# Altium footprint library conector's_and_TP.PcbLib: 12 footprints
Each footprint in its own frame and in the unit in brackets; x right, y up, seen from the top. Pads: shape width x height; smd on the part's side, far side on the other; paste and mask are expansions set on the pad; w line width, h text height; cw(c..) or ccw(c..) is an arc to the next point about the centre after c.
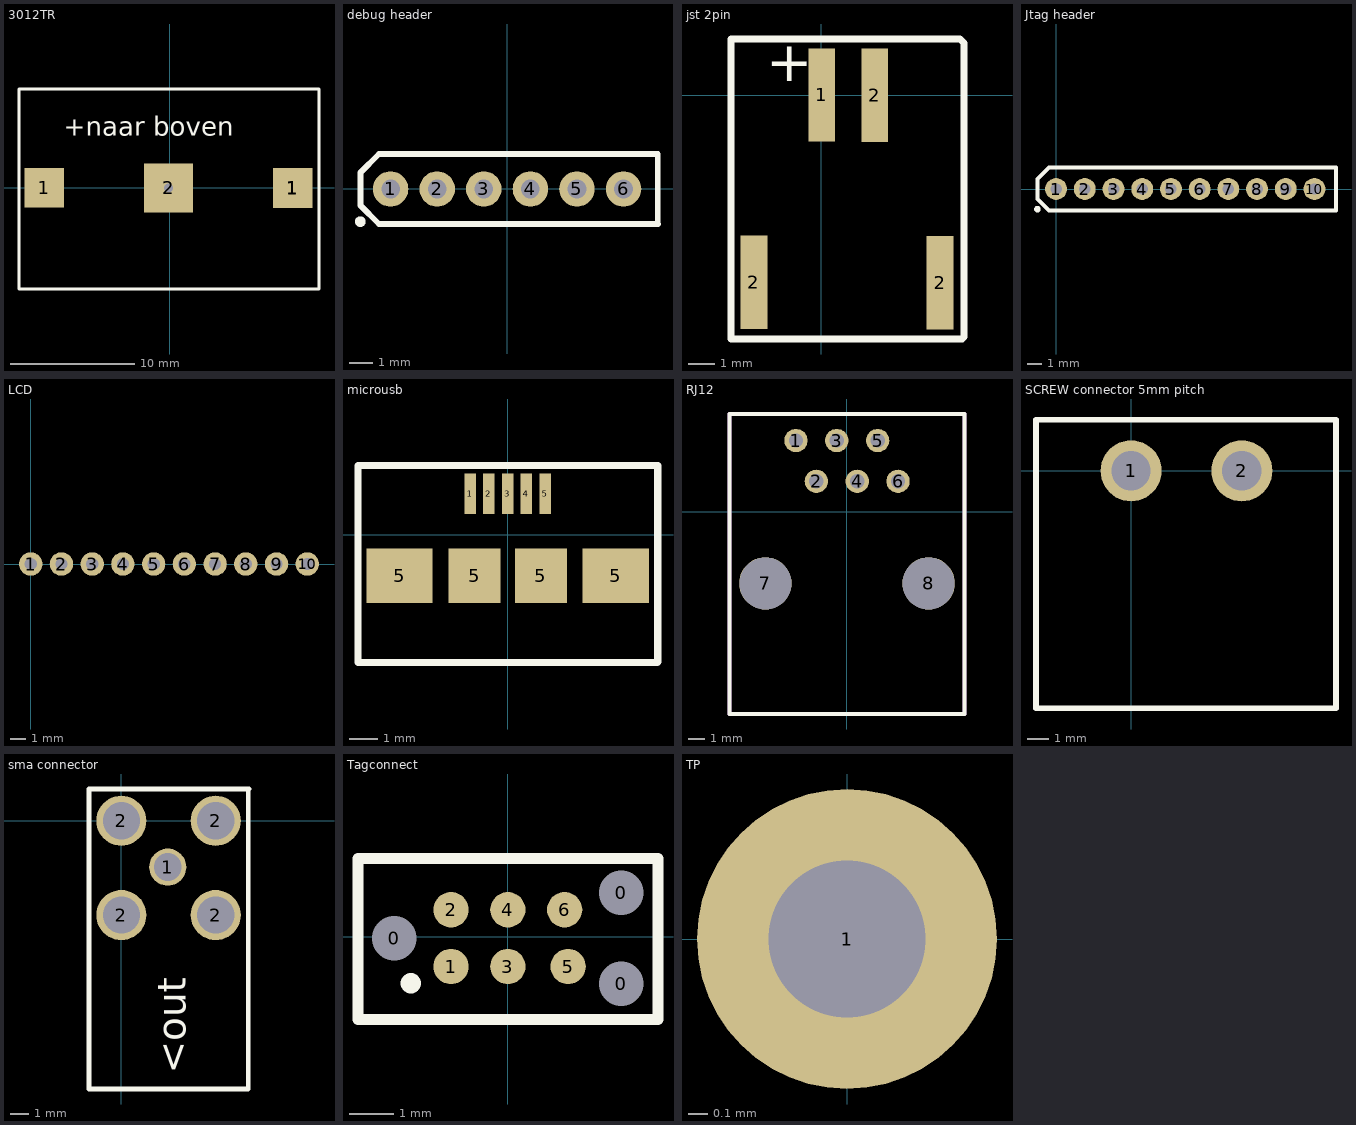
[diagram p0: the footprints below, top view; thin cyan lines are the x and y axes]

## 3012TR [mm]
pads (4):
  rect 3.18x3.18 smd: 1(-10.1,0) 1(9.925,-0.012) 1(9.94,0)
  rect 3.96x3.96 smd: 2(-0.08,0)
via -0.08,0 diameter 1.27 hole 0.711
Top Overlay:
  lines w0.254: -12.14,-8.14 -12.14,-5.58 -12.14,7.97 12.04,7.97 12.04,-8.14 -12.14,-8.14
  text "+naar boven" at -8.546,4.204 h1.52
3D body "keystone 3012-3013.step": height 4, standoff 0.04, extent -11.628,-7.784 11.588,7.558

## debug header [mm]
pads (6):
  round 1.524 hole 0.8: 1(-5,0) 2(-3,0) 3(-1,0) 4(1,0) 5(3,0) 6(5,0)
Top Overlay:
  circle w0.254: c-6.3,-1.4 r0.1
  lines w0.125: 6.47,-1.49 6.48,-1.5
  lines w0.25: 6.47,-1.49 6.47,1.5
  lines w0.254: 6.47,1.5 -5.5,1.5 -6.3,0.7 -6.3,-0.7 -5.5,-1.5 6.48,-1.5

## jst 2pin [mm] "jst 2 pin battery connector"
pads (4):
  rect 1x3.5 smd: 1(0.016,0.002) 2(-2.52,-7.01) 2(2,0) 2(4.45,-7.03)
Top Overlay:
  lines w0.254: -3.38,-9.14 -3.38,-8.49 -3.38,2.1 -2.68,2.1 5.2,2.1 5.35,1.95 5.35,-7.63 5.35,-9.07 5.28,-9.14 -3.38,-9.14
  text "+" at -2.066,0.51 h1.52
3D body "JST - PH - SMD (R) - 2Pin - 2.00mm.stp": height 5.38, standoff 0, extent -3.2,-8.167 4.947,0.087

## Jtag header [mil]
pads (10):
  round 60 hole 31.5: 1(0,0) 2(78.74,0) 3(157.48,0) 4(236.22,0) 5(314.96,0) 6(393.7,0) 7(472.44,0) 8(551.18,0) 9(629.92,0) 10(708.66,0)
Top Overlay:
  circle w10: c-51.18,-55.12 r3.94
  lines w10: -51.18,-27.56 -19.69,-59.06 767.72,-59.06 767.72,59.06 -19.69,59.06 -51.18,27.56 -51.18,-27.56
3D body "65775.stp": height 325.59, standoff -128.74, extent 658.67,-49.99 758.67,50.01
3D body "65775.stp": height 325.59, standoff -128.74, extent 579.93,-49.99 679.93,50.01
3D body "65775.stp": height 325.59, standoff -128.74, extent 501.19,-50 601.19,50
3D body "65775.stp": height 325.59, standoff -128.74, extent 422.45,-49.99 522.45,50.01
3D body "65775.stp": height 325.59, standoff -128.74, extent 343.7,-49.99 443.7,50.01
3D body "65775.stp": height 325.59, standoff -128.74, extent 264.97,-49.99 364.97,50.01
3D body "65775.stp": height 325.59, standoff -128.74, extent 186.22,-49.99 286.22,50.01
3D body "65775.stp": height 325.59, standoff -128.74, extent 107.48,-49.99 207.48,50.01
3D body "65775.stp": height 325.59, standoff -128.74, extent 28.75,-49.99 128.75,50.01
3D body "65775.stp": height 325.59, standoff -128.74, extent -46.06,-51.18 53.94,48.82

## LCD [mil]
pads (10):
  round 60 hole 31.5: 1(0,0) 2(78.74,0) 3(157.48,0) 4(236.22,0) 5(314.96,0) 6(393.7,0) 7(472.44,0) 8(551.18,0) 9(629.92,0) 10(708.66,0)
3D body "65775.stp": height 325.59, standoff -128.74, extent -70.87,-48.82 29.13,51.18
3D body "65775.stp": height 325.59, standoff -128.74, extent 28.75,-49.99 128.75,50.01
3D body "65775.stp": height 325.59, standoff -128.74, extent 107.48,-49.99 207.48,50.01
3D body "65775.stp": height 325.59, standoff -128.74, extent 186.22,-49.99 286.22,50.01
3D body "65775.stp": height 325.59, standoff -128.74, extent 264.97,-49.99 364.97,50.01
3D body "65775.stp": height 325.59, standoff -128.74, extent 343.7,-49.99 443.7,50.01
3D body "65775.stp": height 325.59, standoff -128.74, extent 422.45,-49.99 522.45,50.01
3D body "65775.stp": height 325.59, standoff -128.74, extent 501.19,-50 601.19,50
3D body "65775.stp": height 325.59, standoff -128.74, extent 579.93,-49.99 679.93,50.01
3D body "65775.stp": height 325.59, standoff -128.74, extent 658.67,-49.99 758.67,50.01

## microusb [mm]
pads (9):
  rect 0.4x1.4 smd: 1(-1.3,1.425) 2(-0.65,1.425) 3(0,1.425) 4(0.65,1.425) 5(1.3,1.425)
  rect 2.3x1.9 smd: 5(-3.75,-1.425) 5(3.75,-1.425)
  rect 1.8x1.9 smd: 5(-1.15,-1.425) 5(1.15,-1.425)
Top Overlay:
  lines w0.254: -5.19,-4.43 -5.19,2.4 -1.94,2.4 5.21,2.4 5.2,2.39 5.2,-4.41 5.18,-4.43 -5.19,-4.43
3D body "User_Library-usb_port_ch.STEP": height 2.82, standoff -0.75, extent -4.03,-4.16 3.97,1.44

## RJ12 [mm]
pads (8):
  round 1.45 hole 0.9: 1(-3.175,4.445) 2(-1.905,1.905) 3(-0.635,4.445) 4(0.635,1.905) 5(1.905,4.445) 6(3.175,1.905)
  round 3.25 hole 3.25 unplated: 7(-5.08,-4.445) 8(5.08,-4.445)
Top Overlay:
  lines w0.254: -7.305,-12.575 7.305,-12.575 7.305,6.095 -7.305,6.095 -7.305,-12.575
Mechanical 15:
  lines w0.254: -7.305,-12.575 7.305,-12.575 7.305,6.095 -7.305,6.095 -7.305,-12.575

## SCREW connector 5mm pitch [mm]
pads (2):
  round 2.8 hole 1.8: 1(0,0) 2(5.08,0)
Top Overlay:
  lines w0.254: -4.36,-10.9 9.4,-10.9 9.4,2.35 -4.36,2.35 -4.36,-10.9
3D body "pxc_1757242_06_MSTBA-2-5-2-G-5-08_3D.stp": height 9.6, standoff -2.5, extent -3.6,-9.902 8.56,2.1

## sma connector [mm]
pads (5):
  round 2 hole 1.5: 1(2.5,-2.5)
  round 2.7 hole 2: 2(0,-5.08) 2(0,0) 2(5.08,-5.08) 2(5.08,0)
Top Overlay:
  lines w0.254: -1.75,-14.45 6.83,-14.45 6.83,1.66 6.88,1.71 -1.75,1.71 -1.75,-14.45
  text "<out" at 3.476,-13.616 h1.52
3D body "sma-r.step": height 9.55, standoff -3.94, extent -0.78,-14.194 5.57,0.614

## tag connect 10 pins [mm]

## Tagconnect [mm]
pads (9):
  round 0.9 hole 0.995 unplated: 0(-2.539,-0.031) 0(2.541,-1.047) 0(2.541,0.985)
  round 0.79 smd paste-0.39: 1(-1.269,-0.666) 2(-1.269,0.604) 3(0.001,-0.666) 4(0.001,0.604) 5(1.351,-0.666) 6(1.271,0.604)
Top Overlay:
  circle w0.254: c-2.17,-1.04 r0.1
  lines w0.254: -3.35,-1.85 -3.35,1.75 3.36,1.75 3.36,-1.85 -3.35,-1.85
3D body "tagconnect.step": height 26.4, standoff -4.4, extent -4.79,-3 4.71,2.9

## TP [mil]
pads (1):
  round 60 hole 31.5: 1(0,0)
3D body "User Library-RM254_1pin.step": height 237.01, standoff -122.05, extent -50,-50 50,50